# Altium footprint library cap.PcbLib: 13 footprints
Each footprint in its own frame and in the unit in brackets; x right, y up, seen from the top. Pads: shape width x height; smd on the part's side, far side on the other; paste and mask are expansions set on the pad; w line width, h text height; cw(c..) or ccw(c..) is an arc to the next point about the centre after c.
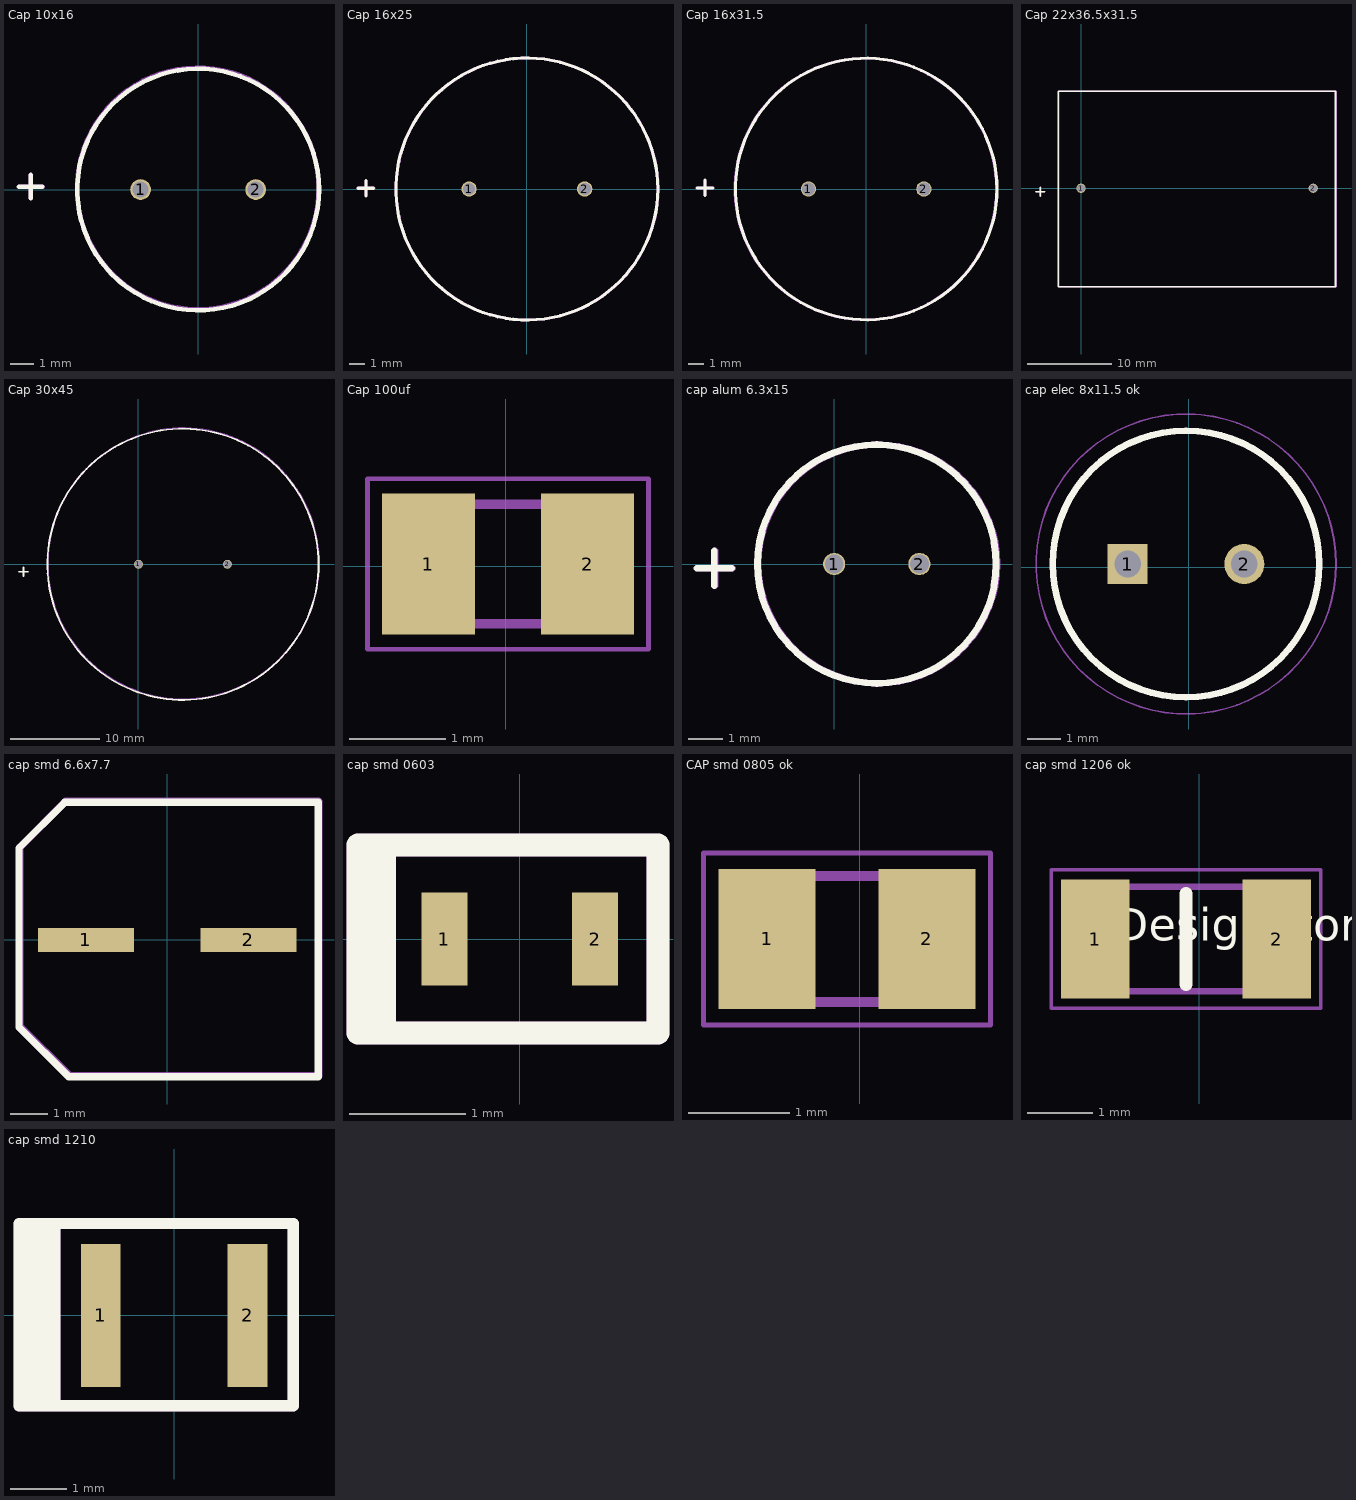
[diagram p0: the footprints below, top view; thin cyan lines are the x and y axes]

## Cap 10x16 [mm]
pads (2):
  round 0.9 hole 0.7: 1(-2.5,0) 2(2.5,0)
Top Overlay:
  circle w0.2: c0,0 r5.25
  lines w0.2: -7.781,0.127 -6.765,0.127 ; -7.273,-0.381 -7.273,0.635
Mechanical 29 (Mech29):
  circle w0.2: c-0.011,0.051 r5.25
  lines w0.2: -7.772,0.127 -6.756,0.127 ; -7.264,-0.381 -7.264,0.635
  text "'.Designator'-" at -4.013,0.864 h0.5
3D body "User Library-Cap electro 10x16x5_0mm.step": height 16.04, standoff -4.23, extent -5,-5.051 5.051,5

## Cap 16x25 [mm]
pads (2):
  round 1 hole 0.8: 1(-3.75,0) 2(3.75,0)
Top Overlay:
  circle w0.2: c0,0 r8.5
  lines w0.2: -10.956,0.051 -9.94,0.051 ; -10.448,-0.457 -10.448,0.559
Mechanical 29 (Mech29):
  circle w0.2: c0.009,0 r8.5
  lines w0.2: -10.947,0.051 -9.931,0.051 ; -10.439,-0.457 -10.439,0.559
  text "'.Designator'-" at -6.934,1.473 h0.5
3D body "User Library-CE_R300_D650_H1000_16x25mm.step": height 25.41, standoff -3.49, extent -8.241,-8.25 8.259,8.25

## Cap 16x31.5 [mm]
pads (2):
  round 1 hole 0.85: 1(-3.75,0) 2(3.75,0)
Top Overlay:
  circle w0.2: c0,0 r8.5
  lines w0.2: -10.991,0.076 -9.975,0.076 ; -10.483,-0.432 -10.483,0.584 ; -10.982,0.076 -9.966,0.076 -10.982,0.076 ; -10.474,-0.432 -10.474,0.584 -10.474,-0.432
Mechanical 29 (Mech29):
  circle w0.2: c-0.025,0 r8.5
  lines w0.2: -10.973,0.076 -9.957,0.076 ; -10.465,-0.432 -10.465,0.584
  text "'.Designator'-" at -5.842,0.61 h0.5
3D body "User Library-Cap-EL(16x31_5-7_5)T.step": height 41, standoff -3, extent -8,-8 8.002,8

## Cap 22x36.5x31.5 [mm]
pads (2):
  round 1.1 hole 0.9: 1(0,0) 2(27.5,0)
Top Overlay:
  lines w0.2: -5.334,-0.406 -4.318,-0.406 ; -4.826,-0.914 -4.826,0.102 ; -2.692,-11.684 30.15,-11.684 30.15,11.506 -2.692,11.506 -2.692,-11.684
Mechanical 29 (Mech29):
  lines w0.2: -5.309,-0.406 -4.293,-0.406 ; -4.801,-0.914 -4.801,0.102 ; -2.642,-11.684 -2.642,11.506 30.201,11.506 30.201,-11.684 -2.642,-11.684
  text "'.Designator'-" at 5.486,-1.778 h0.5
3D body "User Library-FILM_BLUE_P2750L3150W2200H3650PD90_22x31.5x.step": height 35.01, standoff -6.49, extent -2.11,-11.025 29.39,10.975

## Cap 30x45 [mm]
pads (2):
  round 1 hole 0.85: 1(0,0) 2(10,0)
Top Overlay:
  circle w0.2: c5,0 r15.25
  lines w0.2: -13.437,-0.838 -12.421,-0.838 ; -13.411,-0.838 -12.395,-0.838 ; -12.929,-1.346 -12.929,-0.33 ; -12.903,-1.346 -12.903,-0.33
Mechanical 29 (Mech29):
  circle w0.2: c5.051,0.076 r15.25
  text "'.Designator'-" at -1.397,5.283 h0.5
3D body "cap 30x45.stp": height 47, standoff -6.79, extent -20.478,-25.532 30.434,25.38

## Cap 100uf [mm] "0805"
pads (2):
  rect 0.97x1.47 smd: 1(-0.805,0.025) 2(0.855,0.025)
Mechanical 13:
  lines w0.1: -0.975,-0.6 1.025,-0.6 1.025,0.65 -0.975,0.65 -0.975,-0.6
Mechanical 15:
  lines w0.05: -1.44,-0.865 1.49,-0.865 1.49,0.915 -1.44,0.915 -1.44,-0.865
3D body "GRM21BR60J107ME15K.stp": height 1.45, standoff 0, extent -0.975,-0.6 1.025,0.65

## cap alum 6.3x15 [mm]
pads (2):
  round 0.65 hole 0.55: 1(0,0) 2(2.5,0)
Top Overlay:
  circle w0.2: c1.25,0 r3.5
  lines w0.2: -4.022,-0.127 -3.006,-0.127 ; -3.514,-0.635 -3.514,0.381
Mechanical 29 (Mech29):
  circle w0.2: c1.275,0 r3.5
  lines w0.2: -3.997,-0.127 -2.981,-0.127 ; -3.489,-0.635 -3.489,0.381
  text "'.Designator'-" at -0.61,1.499 h0.5
3D body "cap alum 6.3x15.STEP": height 16.5, standoff -3, extent -2.13,-3.348 4.67,3.45

## cap elec 8x11.5 ok [mm]
pads (2):
  rect 1.2x1.2 hole 0.8: 1(-1.829,0.102)
  round 1.2 hole 0.8: 2(1.671,0.102)
Top Overlay:
  circle w0.2: c-0.079,0.102 r4
Mechanical 13:
  circle w0.1: c-0.079,0.102 r4
Mechanical 15:
  circle w0.05: c-0.079,0.102 r4.5
Mechanical 29 (Mech29):
  text "'.Designator'-" at -2.642,1.397 h0.5
3D body "ESY107M050AG3AA.stp": height 12.5, standoff -10, extent -4.329,-4.148 4.171,4.352

## cap smd 6.6x7.7 [mm]
pads (2):
  rect 2.6x0.65 smd: 1(-2.2,0) 2(2.2,0)
Top Overlay:
  lines w0.2: -4.013,-2.362 -4.013,2.489 -2.769,3.734 -2.54,3.734 4.089,3.734 4.089,-3.708 -2.616,-3.708 -2.667,-3.708 -4.013,-2.362
Mechanical 29 (Mech29):
  lines w0.2: -3.988,-2.337 -2.642,-3.683 -2.591,-3.683 4.115,-3.683 4.115,3.759 -2.515,3.759 -2.743,3.759 -3.988,2.515 -3.988,-2.337
  text "'.Designator'-" at -2.489,1.524 h0.5
3D body "cap smd 6.3x7.7.step": height 7.7, standoff 0, extent -3.701,-3.275 3.599,3.325

## cap smd 0603 [mm]
pads (2):
  rect 0.4x0.8 smd: 1(-0.65,0) 2(0.65,0)
Top Overlay:
  rectangle: -1.397,-0.813 -1.067,0.813
  lines w0.2: -1.397,-0.813 1.194,-0.813 1.194,0.813 -1.397,0.813 -1.397,-0.813
Mechanical 29 (Mech29):
  rectangle: -1.397,-0.813 -1.067,0.813
  lines w0.2: -1.397,-0.813 -1.397,0.813 1.194,0.813 1.194,-0.813 -1.397,-0.813
  text "'.Designator'-" at -1.321,-0.203 h0.5
3D body "cap smd 0603 (1608M).stp": height 0.92, standoff 0, extent -0.875,-0.483 0.875,0.467

## CAP smd 0805 ok [mm]
pads (2):
  rect 0.96x1.39 smd: 1(-0.917,2.642) 2(0.663,2.642)
Mechanical 13:
  lines w0.1: -1.127,2.017 0.873,2.017 0.873,3.267 -1.127,3.267 -1.127,2.017
Mechanical 15:
  lines w0.05: -1.547,1.792 1.293,1.792 1.293,3.492 -1.547,3.492 -1.547,1.792
Mechanical 29 (Mech29):
  text "'.Designator'-" at -1.067,2.997 h0.5
3D body "CC0805KRX7R8BB104.stp": height 0.95, standoff 0, extent -1.127,2.017 0.873,3.267

## cap smd 1206 ok [mm]
pads (2):
  rect 1.05x1.82 smd: 1(-1.593,-4.928) 2(1.187,-4.928)
Top Overlay:
  lines w0.2: -0.203,-5.628 -0.203,-4.228
  text "'.Designator'-" at -1.702,-4.953 h0.5
Mechanical 13:
  lines w0.1: -1.803,-5.728 -1.803,-4.128 1.397,-4.128 1.397,-5.728 -1.803,-5.728
Mechanical 15:
  lines w0.05: -2.268,-5.988 -2.268,-3.868 1.862,-3.868 1.862,-5.988 -2.268,-5.988
3D body "CL31A106MBHNNNE.stp": height 1.8, standoff 0, extent -1.803,-5.728 1.397,-4.128

## cap smd 1210 [mm]
pads (2):
  rect 0.7x2.53 smd: 1(-1.3,0) 2(1.3,0)
Top Overlay:
  rectangle: -2.667,-1.549 -2.007,1.651
  lines w0.2: -2.743,-1.6 2.108,-1.6 2.108,1.626 -2.743,1.626 -2.743,-1.6
Mechanical 29 (Mech29):
  rectangle: -2.667,-1.6 -2.007,1.6
  lines w0.2: -2.743,-1.6 -2.743,1.626 2.108,1.626 2.108,-1.6 -2.743,-1.6
  text "'.Designator'-" at -1.168,0.559 h0.5
3D body "cap smd 1210.stp": height 2.8, standoff 0, extent -1.846,-1.425 1.854,1.475